# Altium footprint library Connector_DIN.PcbLib: 94 footprints (part 6 of 6)
Each footprint in its own frame and in the unit in brackets; x right, y up, seen from the top. Pads: shape width x height; smd on the part's side, far side on the other; paste and mask are expansions set on the pad; w line width, h text height; cw(c..) or ccw(c..) is an arc to the next point about the centre after c.
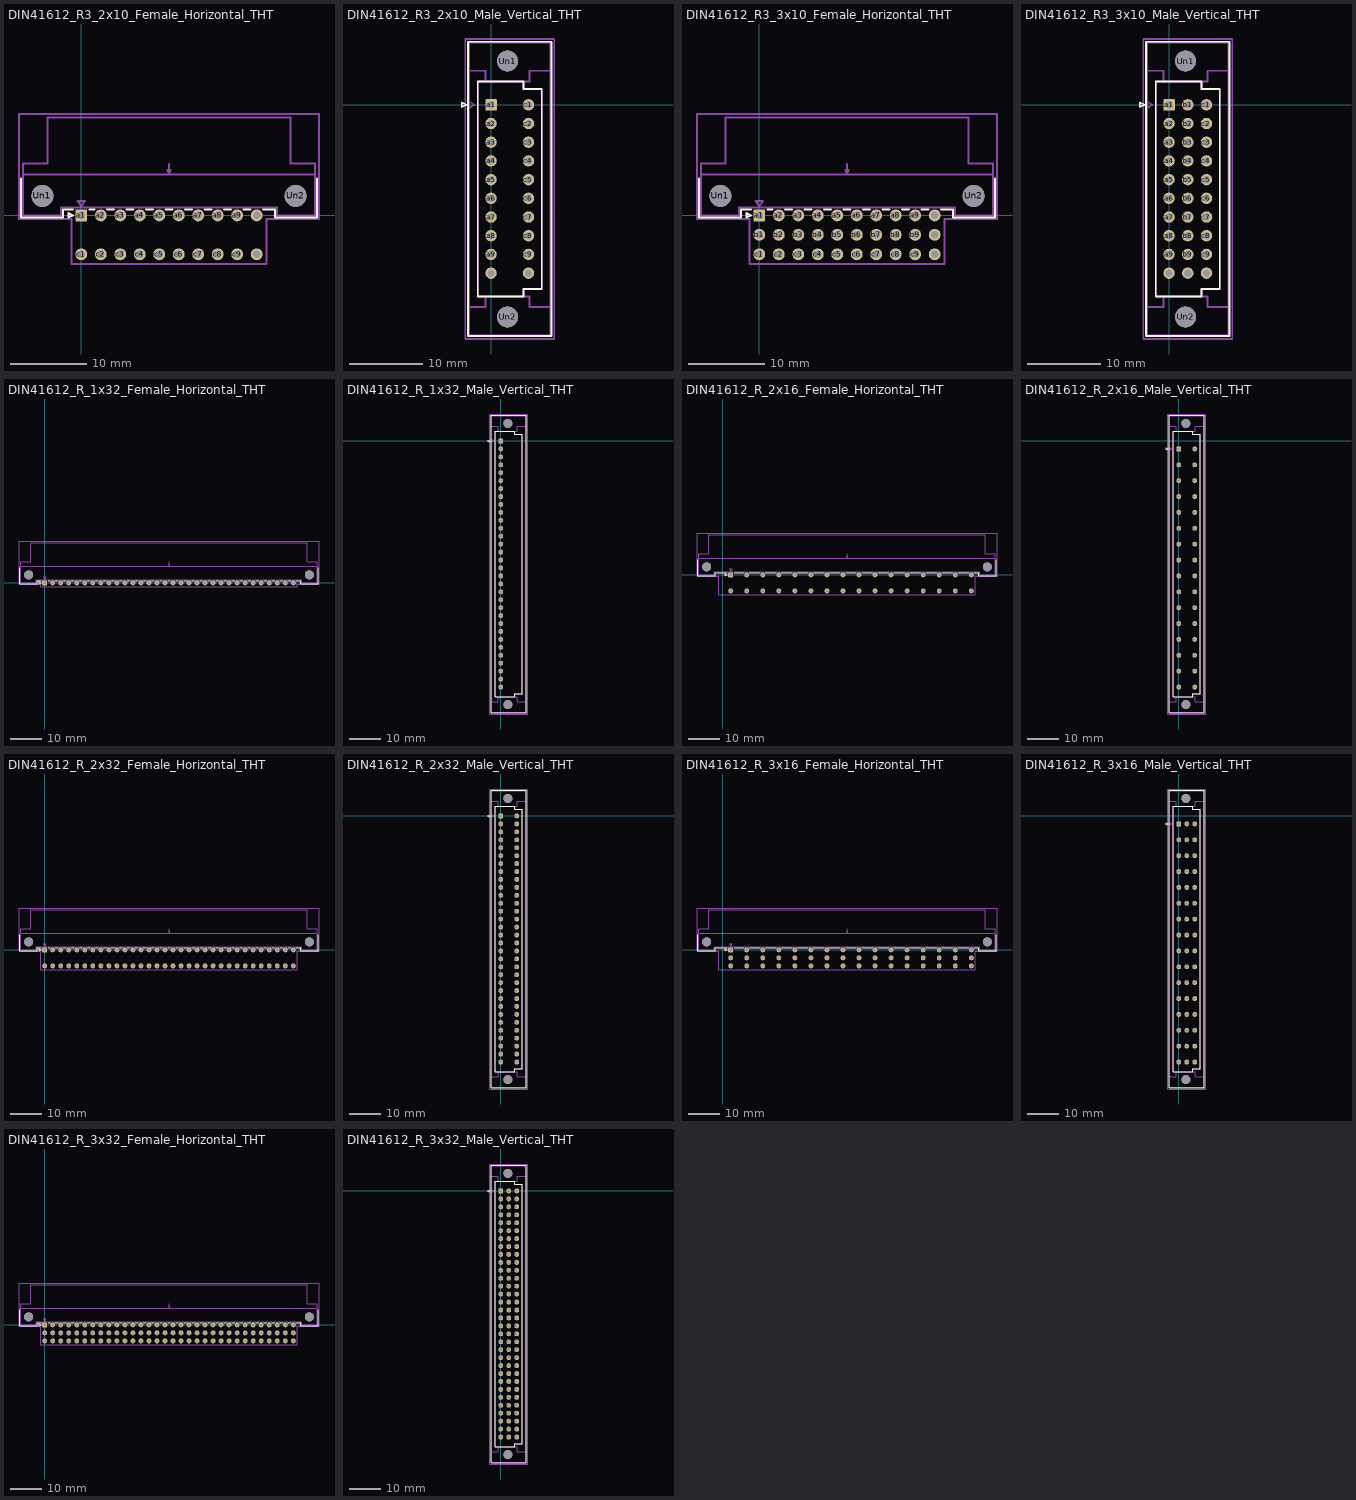
[diagram p5: the footprints below, top view; thin cyan lines are the x and y axes]

## DIN41612_R3_2x10_Female_Horizontal_THT [mm]
pads (22):
  rrect16% 1.55x1.55 hole 1: a1(0,0)
  round 1.55 hole 1: a2(2.54,0) a3(5.08,0) a4(7.62,0) a5(10.16,0) a6(12.7,0) a7(15.24,0) a8(17.78,0) a9(20.32,0) a10(22.86,0) c1(0,-5.08) c2(2.54,-5.08) c3(5.08,-5.08) c4(7.62,-5.08) c5(10.16,-5.08) c6(12.7,-5.08) c7(15.24,-5.08) c8(17.78,-5.08) c9(20.32,-5.08) c10(22.86,-5.08)
  round 2.85 hole 2.85: Un1(-5.08,2.54) Un2(27.94,2.54)
F.SilkS:
  lines w0.254: -7.88,4.8 -7.88,-0.26 -2.36,-0.26 -2.36,0.74 -1.095,0.74 ; 1.095,0.74 1.733,0.74 ; 3.347,0.74 4.273,0.74 ; 5.887,0.74 6.813,0.74 ; 8.427,0.74 9.353,0.74 ; 10.967,0.74 11.893,0.74 ; 13.507,0.74 14.433,0.74 ; 16.047,0.74 16.973,0.74 ; 18.587,0.74 19.513,0.74 ; 21.127,0.74 22.053,0.74 ; 23.667,0.74 25.22,0.74 25.22,-0.26 30.74,-0.26 30.74,4.8 ; -1.695,-0.3 -1.095,0 -1.695,0.3 -1.695,-0.3
Top Assembly:
  lines w0.254: -7.62,0 -2.62,0 -2.62,1 25.48,1 25.48,0 30.48,0 30.48,6.74 27.28,6.74 27.28,12.74 -4.42,12.74 -4.42,6.74 -7.62,6.74 -7.62,0 ; -0.5,1.9 0,1.2 0.5,1.9 -0.5,1.9
  text "'.Designator'" at 7.383,1.7 h1
Top Courtyard:
  lines w0.254: -8.12,-0.5 -1.27,-0.5 -1.27,-6.36 24.14,-6.36 24.14,-0.5 30.98,-0.5 30.98,13.23 -8.12,13.23 -8.12,-0.5
Top Designator:
  text ".Designator" at 3.812,2.927 h1.52
Dwgs.User:
  lines w0.254: -7.62,5.3 30.48,5.3
Cmts.User:
  lines w0.254: 11.23,5.9 11.43,5.4 ; 11.43,6.7 11.43,5.4 ; 11.63,5.9 11.43,5.4
  text "Board edge" at 8.637,6.733 h0.7

## DIN41612_R3_2x10_Male_Vertical_THT [mm]
pads (22):
  rrect16% 1.55x1.55 hole 1: a1(0,0)
  round 1.55 hole 1: a2(0,-2.54) a3(0,-5.08) a4(0,-7.62) a5(0,-10.16) a6(0,-12.7) a7(0,-15.24) a8(0,-17.78) a9(0,-20.32) a10(0,-22.86) c1(5.08,0) c2(5.08,-2.54) c3(5.08,-5.08) c4(5.08,-7.62) c5(5.08,-10.16) c6(5.08,-12.7) c7(5.08,-15.24) c8(5.08,-17.78) c9(5.08,-20.32) c10(5.08,-22.86)
  round 2.85 hole 2.85: Un1(2.24,5.95) Un2(2.24,-28.81)
F.SilkS:
  lines w0.254: -3.99,-0.3 -3.31,0 -3.99,0.3 -3.99,-0.3 ; -3.12,-31.42 8.2,-31.42 8.2,8.56 -3.12,8.56 -3.12,-31.42 ; -1.81,-26.03 4.39,-26.03 4.39,-25.03 6.89,-25.03 6.89,2.17 4.39,2.17 4.39,3.17 -1.81,3.17 -1.81,-26.03
Top Assembly:
  lines w0.254: -3.01,-27.48 -0.76,-27.48 -0.76,-26.03 ; -3.01,-0.5 -2.31,0 -3.01,0.5 ; -3.01,4.62 -0.76,4.62 -0.76,3.17 ; 8.09,-27.48 5.24,-27.48 5.24,-26.03 4.39,-26.03 ; 8.09,4.62 5.24,4.62 5.24,3.17 4.39,3.17 ; 4.39,-26.03 -1.81,-26.03 -1.81,3.17 4.39,3.17 ; 4.39,-26.03 4.39,-25.03 6.89,-25.03 6.89,2.17 4.39,2.17 4.39,3.17 ; -3.01,-31.31 8.09,-31.31 8.09,8.45 -3.01,8.45 -3.01,-31.31
  text "'.Designator'" at -1.507,-12.27 h1
Top Courtyard:
  lines w0.254: -3.5,-31.81 8.59,-31.81 8.59,8.94 -3.5,8.94 -3.5,-31.81
Top Designator:
  text ".Designator" at -5.318,-11.943 h1.52

## DIN41612_R3_3x10_Female_Horizontal_THT [mm]
pads (32):
  rrect16% 1.55x1.55 hole 1: a1(0,0)
  round 1.55 hole 1: a2(2.54,0) a3(5.08,0) a4(7.62,0) a5(10.16,0) a6(12.7,0) a7(15.24,0) a8(17.78,0) a9(20.32,0) a10(22.86,0) b1(0,-2.54) b2(2.54,-2.54) b3(5.08,-2.54) b4(7.62,-2.54) b5(10.16,-2.54) b6(12.7,-2.54) b7(15.24,-2.54) b8(17.78,-2.54) b9(20.32,-2.54) b10(22.86,-2.54) c1(0,-5.08) c2(2.54,-5.08) c3(5.08,-5.08) c4(7.62,-5.08) c5(10.16,-5.08) c6(12.7,-5.08) c7(15.24,-5.08) c8(17.78,-5.08) c9(20.32,-5.08) c10(22.86,-5.08)
  round 2.85 hole 2.85: Un1(-5.08,2.54) Un2(27.94,2.54)
F.SilkS:
  lines w0.254: -7.88,4.8 -7.88,-0.26 -2.36,-0.26 -2.36,0.74 -1.095,0.74 ; 1.095,0.74 1.733,0.74 ; 3.347,0.74 4.273,0.74 ; 5.887,0.74 6.813,0.74 ; 8.427,0.74 9.353,0.74 ; 10.967,0.74 11.893,0.74 ; 13.507,0.74 14.433,0.74 ; 16.047,0.74 16.973,0.74 ; 18.587,0.74 19.513,0.74 ; 21.127,0.74 22.053,0.74 ; 23.667,0.74 25.22,0.74 25.22,-0.26 30.74,-0.26 30.74,4.8 ; -1.695,-0.3 -1.095,0 -1.695,0.3 -1.695,-0.3
Top Assembly:
  lines w0.254: -7.62,0 -2.62,0 -2.62,1 25.48,1 25.48,0 30.48,0 30.48,6.74 27.28,6.74 27.28,12.74 -4.42,12.74 -4.42,6.74 -7.62,6.74 -7.62,0 ; -0.5,1.9 0,1.2 0.5,1.9 -0.5,1.9
  text "'.Designator'" at 7.383,1.7 h1
Top Courtyard:
  lines w0.254: -8.12,-0.5 -1.27,-0.5 -1.27,-6.36 24.14,-6.36 24.14,-0.5 30.98,-0.5 30.98,13.23 -8.12,13.23 -8.12,-0.5
Top Designator:
  text ".Designator" at 3.812,2.927 h1.52
Dwgs.User:
  lines w0.254: -7.62,5.3 30.48,5.3
Cmts.User:
  lines w0.254: 11.23,5.9 11.43,5.4 ; 11.43,6.7 11.43,5.4 ; 11.63,5.9 11.43,5.4
  text "Board edge" at 8.637,6.733 h0.7

## DIN41612_R3_3x10_Male_Vertical_THT [mm]
pads (32):
  rrect16% 1.55x1.55 hole 1: a1(0,0)
  round 1.55 hole 1: a2(0,-2.54) a3(0,-5.08) a4(0,-7.62) a5(0,-10.16) a6(0,-12.7) a7(0,-15.24) a8(0,-17.78) a9(0,-20.32) a10(0,-22.86) b1(2.54,0) b2(2.54,-2.54) b3(2.54,-5.08) b4(2.54,-7.62) b5(2.54,-10.16) b6(2.54,-12.7) b7(2.54,-15.24) b8(2.54,-17.78) b9(2.54,-20.32) b10(2.54,-22.86) c1(5.08,0) c2(5.08,-2.54) c3(5.08,-5.08) c4(5.08,-7.62) c5(5.08,-10.16) c6(5.08,-12.7) c7(5.08,-15.24) c8(5.08,-17.78) c9(5.08,-20.32) c10(5.08,-22.86)
  round 2.85 hole 2.85: Un1(2.24,5.95) Un2(2.24,-28.81)
F.SilkS:
  lines w0.254: -3.99,-0.3 -3.31,0 -3.99,0.3 -3.99,-0.3 ; -3.12,-31.42 8.2,-31.42 8.2,8.56 -3.12,8.56 -3.12,-31.42 ; -1.81,-26.03 4.39,-26.03 4.39,-25.03 6.89,-25.03 6.89,2.17 4.39,2.17 4.39,3.17 -1.81,3.17 -1.81,-26.03
Top Assembly:
  lines w0.254: -3.01,-27.48 -0.76,-27.48 -0.76,-26.03 ; -3.01,-0.5 -2.31,0 -3.01,0.5 ; -3.01,4.62 -0.76,4.62 -0.76,3.17 ; 8.09,-27.48 5.24,-27.48 5.24,-26.03 4.39,-26.03 ; 8.09,4.62 5.24,4.62 5.24,3.17 4.39,3.17 ; 4.39,-26.03 -1.81,-26.03 -1.81,3.17 4.39,3.17 ; 4.39,-26.03 4.39,-25.03 6.89,-25.03 6.89,2.17 4.39,2.17 4.39,3.17 ; -3.01,-31.31 8.09,-31.31 8.09,8.45 -3.01,8.45 -3.01,-31.31
  text "'.Designator'" at -1.507,-12.27 h1
Top Courtyard:
  lines w0.254: -3.5,-31.81 8.59,-31.81 8.59,8.94 -3.5,8.94 -3.5,-31.81
Top Designator:
  text ".Designator" at -5.318,-11.943 h1.52

## DIN41612_R_1x32_Female_Horizontal_THT [mm]
pads (34):
  rrect16% 1.55x1.55 hole 1: a1(0,0)
  round 1.55 hole 1: a2(2.54,0) a3(5.08,0) a4(7.62,0) a5(10.16,0) a6(12.7,0) a7(15.24,0) a8(17.78,0) a9(20.32,0) a10(22.86,0) a11(25.4,0) a12(27.94,0) a13(30.48,0) a14(33.02,0) a15(35.56,0) a16(38.1,0) a17(40.64,0) a18(43.18,0) a19(45.72,0) a20(48.26,0) a21(50.8,0) a22(53.34,0) a23(55.88,0) a24(58.42,0) a25(60.96,0) a26(63.5,0) a27(66.04,0) a28(68.58,0) a29(71.12,0) a30(73.66,0) a31(76.2,0) a32(78.74,0)
  round 2.85 hole 2.85: Un1(-5.08,2.54) Un2(83.82,2.54)
F.SilkS:
  lines w0.254: -7.89,4.8 -7.89,-0.26 -2.37,-0.26 -2.37,0.74 -1.095,0.74 ; 1.095,0.74 1.733,0.74 ; 3.347,0.74 4.273,0.74 ; 5.887,0.74 6.813,0.74 ; 8.427,0.74 9.353,0.74 ; 10.967,0.74 11.893,0.74 ; 13.507,0.74 14.433,0.74 ; 16.047,0.74 16.973,0.74 ; 18.587,0.74 19.513,0.74 ; 21.127,0.74 22.053,0.74 ; 23.667,0.74 24.593,0.74 ; 26.207,0.74 27.133,0.74 ; 28.747,0.74 29.673,0.74 ; 31.287,0.74 32.213,0.74 ; 33.827,0.74 34.753,0.74 ; 36.367,0.74 37.293,0.74 ; 38.907,0.74 39.833,0.74 ; 41.447,0.74 42.373,0.74 ; 43.987,0.74 44.913,0.74 ; 46.527,0.74 47.453,0.74 ; 49.067,0.74 49.993,0.74 ; 51.607,0.74 52.533,0.74 ; 54.147,0.74 55.073,0.74 ; 56.687,0.74 57.613,0.74 ; 59.227,0.74 60.153,0.74 ; 61.767,0.74 62.693,0.74 ; 64.307,0.74 65.233,0.74 ; 66.847,0.74 67.773,0.74 ; 69.387,0.74 70.313,0.74 ; 71.927,0.74 72.853,0.74 ; 74.467,0.74 75.393,0.74 ; 77.007,0.74 77.933,0.74 ; 79.547,0.74 81.11,0.74 81.11,-0.26 86.63,-0.26 86.63,4.8 ; -1.695,-0.3 -1.095,0 -1.695,0.3 -1.695,-0.3
Top Assembly:
  lines w0.254: -7.63,0 -2.63,0 -2.63,1 81.37,1 81.37,0 86.37,0 86.37,6.74 83.12,6.74 83.12,12.74 -4.38,12.74 -4.38,6.74 -7.63,6.74 -7.63,0 ; -0.5,1.9 0,1.2 0.5,1.9 -0.5,1.9
  text "'.Designator'" at 35.323,1.7 h1
Top Courtyard:
  lines w0.254: -8.13,-0.5 -1.27,-0.5 -1.27,-1.28 80.02,-1.28 80.02,-0.5 86.87,-0.5 86.87,13.23 -8.13,13.23 -8.13,-0.5
Top Designator:
  text ".Designator" at 31.752,5.467 h1.52
Dwgs.User:
  lines w0.254: -7.63,5.3 86.37,5.3
Cmts.User:
  lines w0.254: 39.17,5.9 39.37,5.4 ; 39.37,6.7 39.37,5.4 ; 39.57,5.9 39.37,5.4
  text "Board edge" at 36.577,6.733 h0.7

## DIN41612_R_1x32_Male_Vertical_THT [mm]
pads (34):
  rrect16% 1.55x1.55 hole 1: a1(0,0)
  round 1.55 hole 1: a2(0,-2.54) a3(0,-5.08) a4(0,-7.62) a5(0,-10.16) a6(0,-12.7) a7(0,-15.24) a8(0,-17.78) a9(0,-20.32) a10(0,-22.86) a11(0,-25.4) a12(0,-27.94) a13(0,-30.48) a14(0,-33.02) a15(0,-35.56) a16(0,-38.1) a17(0,-40.64) a18(0,-43.18) a19(0,-45.72) a20(0,-48.26) a21(0,-50.8) a22(0,-53.34) a23(0,-55.88) a24(0,-58.42) a25(0,-60.96) a26(0,-63.5) a27(0,-66.04) a28(0,-68.58) a29(0,-71.12) a30(0,-73.66) a31(0,-76.2) a32(0,-78.74)
  round 2.85 hole 2.85: Un1(2.24,5.63) Un2(2.24,-84.37)
F.SilkS:
  lines w0.254: -3.99,-0.3 -3.31,0 -3.99,0.3 -3.99,-0.3 ; -3.12,-86.98 8.2,-86.98 8.2,8.24 -3.12,8.24 -3.12,-86.98 ; -1.81,-81.87 4.39,-81.87 4.39,-80.87 6.89,-80.87 6.89,2.13 4.39,2.13 4.39,3.13 -1.81,3.13 -1.81,-81.87
Top Assembly:
  lines w0.254: -3.01,-83.37 -0.76,-83.37 -0.76,-81.87 ; -3.01,-0.5 -2.31,0 -3.01,0.5 ; -3.01,4.63 -0.76,4.63 -0.76,3.13 ; 8.09,-83.37 5.24,-83.37 5.24,-81.87 4.39,-81.87 ; 8.09,4.63 5.24,4.63 5.24,3.13 4.39,3.13 ; 4.39,-81.87 -1.81,-81.87 -1.81,3.13 4.39,3.13 ; 4.39,-81.87 4.39,-80.87 6.89,-80.87 6.89,2.13 4.39,2.13 4.39,3.13 ; -3.01,-86.87 8.09,-86.87 8.09,8.13 -3.01,8.13 -3.01,-86.87
  text "'.Designator'" at -1.507,-40.21 h1
Top Courtyard:
  lines w0.254: -3.5,-87.37 8.59,-87.37 8.59,8.63 -3.5,8.63 -3.5,-87.37
Top Designator:
  text ".Designator" at -5.318,-39.878 h1.52

## DIN41612_R_2x16_Female_Horizontal_THT [mm]
pads (34):
  rrect16% 1.55x1.55 hole 1: a2(2.54,0)
  round 1.55 hole 1: a4(7.62,0) a6(12.7,0) a8(17.78,0) a10(22.86,0) a12(27.94,0) a14(33.02,0) a16(38.1,0) a18(43.18,0) a20(48.26,0) a22(53.34,0) a24(58.42,0) a26(63.5,0) a28(68.58,0) a30(73.66,0) a32(78.74,0) c2(2.54,-5.08) c4(7.62,-5.08) c6(12.7,-5.08) c8(17.78,-5.08) c10(22.86,-5.08) c12(27.94,-5.08) c14(33.02,-5.08) c16(38.1,-5.08) c18(43.18,-5.08) c20(48.26,-5.08) c22(53.34,-5.08) c24(58.42,-5.08) c26(63.5,-5.08) c28(68.58,-5.08) c30(73.66,-5.08) c32(78.74,-5.08)
  round 2.85 hole 2.85: Un1(-5.08,2.54) Un2(83.82,2.54)
F.SilkS:
  lines w0.254: -7.89,4.8 -7.89,-0.26 -2.37,-0.26 -2.37,0.74 1.445,0.74 ; 3.635,0.74 6.813,0.74 ; 8.427,0.74 11.893,0.74 ; 13.507,0.74 16.973,0.74 ; 18.587,0.74 22.053,0.74 ; 23.667,0.74 27.133,0.74 ; 28.747,0.74 32.213,0.74 ; 33.827,0.74 37.293,0.74 ; 38.907,0.74 42.373,0.74 ; 43.987,0.74 47.453,0.74 ; 49.067,0.74 52.533,0.74 ; 54.147,0.74 57.613,0.74 ; 59.227,0.74 62.693,0.74 ; 64.307,0.74 67.773,0.74 ; 69.387,0.74 72.853,0.74 ; 74.467,0.74 77.933,0.74 ; 79.547,0.74 81.11,0.74 81.11,-0.26 86.63,-0.26 86.63,4.8 ; 0.845,-0.3 1.445,0 0.845,0.3 0.845,-0.3
Top Assembly:
  lines w0.254: -7.63,0 -2.63,0 -2.63,1 81.37,1 81.37,0 86.37,0 86.37,6.74 83.12,6.74 83.12,12.74 -4.38,12.74 -4.38,6.74 -7.63,6.74 -7.63,0 ; 2.04,1.9 2.54,1.2 3.04,1.9 2.04,1.9
  text "'.Designator'" at 35.323,1.7 h1
Top Courtyard:
  lines w0.254: -8.13,-0.5 -1.27,-0.5 -1.27,-6.36 80.02,-6.36 80.02,-0.5 86.87,-0.5 86.87,13.23 -8.13,13.23 -8.13,-0.5
Top Designator:
  text ".Designator" at 31.752,2.927 h1.52
Dwgs.User:
  lines w0.254: -7.63,5.3 86.37,5.3
Cmts.User:
  lines w0.254: 39.17,5.9 39.37,5.4 ; 39.37,6.7 39.37,5.4 ; 39.57,5.9 39.37,5.4
  text "Board edge" at 36.577,6.733 h0.7

## DIN41612_R_2x16_Male_Vertical_THT [mm]
pads (34):
  rrect16% 1.55x1.55 hole 1: a2(0,-2.54)
  round 1.55 hole 1: a4(0,-7.62) a6(0,-12.7) a8(0,-17.78) a10(0,-22.86) a12(0,-27.94) a14(0,-33.02) a16(0,-38.1) a18(0,-43.18) a20(0,-48.26) a22(0,-53.34) a24(0,-58.42) a26(0,-63.5) a28(0,-68.58) a30(0,-73.66) a32(0,-78.74) c2(5.08,-2.54) c4(5.08,-7.62) c6(5.08,-12.7) c8(5.08,-17.78) c10(5.08,-22.86) c12(5.08,-27.94) c14(5.08,-33.02) c16(5.08,-38.1) c18(5.08,-43.18) c20(5.08,-48.26) c22(5.08,-53.34) c24(5.08,-58.42) c26(5.08,-63.5) c28(5.08,-68.58) c30(5.08,-73.66) c32(5.08,-78.74)
  round 2.85 hole 2.85: Un1(2.24,5.63) Un2(2.24,-84.37)
F.SilkS:
  lines w0.254: -3.99,-2.84 -3.31,-2.54 -3.99,-2.24 -3.99,-2.84 ; -3.12,-86.98 8.2,-86.98 8.2,8.24 -3.12,8.24 -3.12,-86.98 ; -1.81,-81.87 4.39,-81.87 4.39,-80.87 6.89,-80.87 6.89,2.13 4.39,2.13 4.39,3.13 -1.81,3.13 -1.81,-81.87
Top Assembly:
  lines w0.254: -3.01,-83.37 -0.76,-83.37 -0.76,-81.87 ; -3.01,-3.04 -2.31,-2.54 -3.01,-2.04 ; -3.01,4.63 -0.76,4.63 -0.76,3.13 ; 8.09,-83.37 5.24,-83.37 5.24,-81.87 4.39,-81.87 ; 8.09,4.63 5.24,4.63 5.24,3.13 4.39,3.13 ; 4.39,-81.87 -1.81,-81.87 -1.81,3.13 4.39,3.13 ; 4.39,-81.87 4.39,-80.87 6.89,-80.87 6.89,2.13 4.39,2.13 4.39,3.13 ; -3.01,-86.87 8.09,-86.87 8.09,8.13 -3.01,8.13 -3.01,-86.87
  text "'.Designator'" at -1.507,-40.21 h1
Top Courtyard:
  lines w0.254: -3.5,-87.37 8.59,-87.37 8.59,8.63 -3.5,8.63 -3.5,-87.37
Top Designator:
  text ".Designator" at -5.318,-39.878 h1.52

## DIN41612_R_2x32_Female_Horizontal_THT [mm]
pads (66):
  rrect16% 1.55x1.55 hole 1: a1(0,0)
  round 1.55 hole 1: a2(2.54,0) a3(5.08,0) a4(7.62,0) a5(10.16,0) a6(12.7,0) a7(15.24,0) a8(17.78,0) a9(20.32,0) a10(22.86,0) a11(25.4,0) a12(27.94,0) a13(30.48,0) a14(33.02,0) a15(35.56,0) a16(38.1,0) a17(40.64,0) a18(43.18,0) a19(45.72,0) a20(48.26,0) a21(50.8,0) a22(53.34,0) a23(55.88,0) a24(58.42,0) a25(60.96,0) a26(63.5,0) a27(66.04,0) a28(68.58,0) a29(71.12,0) a30(73.66,0) a31(76.2,0) a32(78.74,0) c1(0,-5.08) c2(2.54,-5.08) c3(5.08,-5.08) c4(7.62,-5.08) c5(10.16,-5.08) c6(12.7,-5.08) c7(15.24,-5.08) c8(17.78,-5.08) c9(20.32,-5.08) c10(22.86,-5.08) c11(25.4,-5.08) c12(27.94,-5.08) c13(30.48,-5.08) c14(33.02,-5.08) c15(35.56,-5.08) c16(38.1,-5.08) c17(40.64,-5.08) c18(43.18,-5.08) c19(45.72,-5.08) c20(48.26,-5.08) c21(50.8,-5.08) c22(53.34,-5.08) c23(55.88,-5.08) c24(58.42,-5.08) c25(60.96,-5.08) c26(63.5,-5.08) c27(66.04,-5.08) c28(68.58,-5.08) c29(71.12,-5.08) c30(73.66,-5.08) c31(76.2,-5.08) c32(78.74,-5.08)
  round 2.85 hole 2.85: Un1(-5.08,2.54) Un2(83.82,2.54)
F.SilkS:
  lines w0.254: -7.89,4.8 -7.89,-0.26 -2.37,-0.26 -2.37,0.74 -1.095,0.74 ; 1.095,0.74 1.733,0.74 ; 3.347,0.74 4.273,0.74 ; 5.887,0.74 6.813,0.74 ; 8.427,0.74 9.353,0.74 ; 10.967,0.74 11.893,0.74 ; 13.507,0.74 14.433,0.74 ; 16.047,0.74 16.973,0.74 ; 18.587,0.74 19.513,0.74 ; 21.127,0.74 22.053,0.74 ; 23.667,0.74 24.593,0.74 ; 26.207,0.74 27.133,0.74 ; 28.747,0.74 29.673,0.74 ; 31.287,0.74 32.213,0.74 ; 33.827,0.74 34.753,0.74 ; 36.367,0.74 37.293,0.74 ; 38.907,0.74 39.833,0.74 ; 41.447,0.74 42.373,0.74 ; 43.987,0.74 44.913,0.74 ; 46.527,0.74 47.453,0.74 ; 49.067,0.74 49.993,0.74 ; 51.607,0.74 52.533,0.74 ; 54.147,0.74 55.073,0.74 ; 56.687,0.74 57.613,0.74 ; 59.227,0.74 60.153,0.74 ; 61.767,0.74 62.693,0.74 ; 64.307,0.74 65.233,0.74 ; 66.847,0.74 67.773,0.74 ; 69.387,0.74 70.313,0.74 ; 71.927,0.74 72.853,0.74 ; 74.467,0.74 75.393,0.74 ; 77.007,0.74 77.933,0.74 ; 79.547,0.74 81.11,0.74 81.11,-0.26 86.63,-0.26 86.63,4.8 ; -1.695,-0.3 -1.095,0 -1.695,0.3 -1.695,-0.3
Top Assembly:
  lines w0.254: -7.63,0 -2.63,0 -2.63,1 81.37,1 81.37,0 86.37,0 86.37,6.74 83.12,6.74 83.12,12.74 -4.38,12.74 -4.38,6.74 -7.63,6.74 -7.63,0 ; -0.5,1.9 0,1.2 0.5,1.9 -0.5,1.9
  text "'.Designator'" at 35.323,1.7 h1
Top Courtyard:
  lines w0.254: -8.13,-0.5 -1.27,-0.5 -1.27,-6.36 80.02,-6.36 80.02,-0.5 86.87,-0.5 86.87,13.23 -8.13,13.23 -8.13,-0.5
Top Designator:
  text ".Designator" at 31.752,2.927 h1.52
Dwgs.User:
  lines w0.254: -7.63,5.3 86.37,5.3
Cmts.User:
  lines w0.254: 39.17,5.9 39.37,5.4 ; 39.37,6.7 39.37,5.4 ; 39.57,5.9 39.37,5.4
  text "Board edge" at 36.577,6.733 h0.7

## DIN41612_R_2x32_Male_Vertical_THT [mm]
pads (66):
  rrect16% 1.55x1.55 hole 1: a1(0,0)
  round 1.55 hole 1: a2(0,-2.54) a3(0,-5.08) a4(0,-7.62) a5(0,-10.16) a6(0,-12.7) a7(0,-15.24) a8(0,-17.78) a9(0,-20.32) a10(0,-22.86) a11(0,-25.4) a12(0,-27.94) a13(0,-30.48) a14(0,-33.02) a15(0,-35.56) a16(0,-38.1) a17(0,-40.64) a18(0,-43.18) a19(0,-45.72) a20(0,-48.26) a21(0,-50.8) a22(0,-53.34) a23(0,-55.88) a24(0,-58.42) a25(0,-60.96) a26(0,-63.5) a27(0,-66.04) a28(0,-68.58) a29(0,-71.12) a30(0,-73.66) a31(0,-76.2) a32(0,-78.74) c1(5.08,0) c2(5.08,-2.54) c3(5.08,-5.08) c4(5.08,-7.62) c5(5.08,-10.16) c6(5.08,-12.7) c7(5.08,-15.24) c8(5.08,-17.78) c9(5.08,-20.32) c10(5.08,-22.86) c11(5.08,-25.4) c12(5.08,-27.94) c13(5.08,-30.48) c14(5.08,-33.02) c15(5.08,-35.56) c16(5.08,-38.1) c17(5.08,-40.64) c18(5.08,-43.18) c19(5.08,-45.72) c20(5.08,-48.26) c21(5.08,-50.8) c22(5.08,-53.34) c23(5.08,-55.88) c24(5.08,-58.42) c25(5.08,-60.96) c26(5.08,-63.5) c27(5.08,-66.04) c28(5.08,-68.58) c29(5.08,-71.12) c30(5.08,-73.66) c31(5.08,-76.2) c32(5.08,-78.74)
  round 2.85 hole 2.85: Un1(2.24,5.63) Un2(2.24,-84.37)
F.SilkS:
  lines w0.254: -3.99,-0.3 -3.31,0 -3.99,0.3 -3.99,-0.3 ; -3.12,-86.98 8.2,-86.98 8.2,8.24 -3.12,8.24 -3.12,-86.98 ; -1.81,-81.87 4.39,-81.87 4.39,-80.87 6.89,-80.87 6.89,2.13 4.39,2.13 4.39,3.13 -1.81,3.13 -1.81,-81.87
Top Assembly:
  lines w0.254: -3.01,-83.37 -0.76,-83.37 -0.76,-81.87 ; -3.01,-0.5 -2.31,0 -3.01,0.5 ; -3.01,4.63 -0.76,4.63 -0.76,3.13 ; 8.09,-83.37 5.24,-83.37 5.24,-81.87 4.39,-81.87 ; 8.09,4.63 5.24,4.63 5.24,3.13 4.39,3.13 ; 4.39,-81.87 -1.81,-81.87 -1.81,3.13 4.39,3.13 ; 4.39,-81.87 4.39,-80.87 6.89,-80.87 6.89,2.13 4.39,2.13 4.39,3.13 ; -3.01,-86.87 8.09,-86.87 8.09,8.13 -3.01,8.13 -3.01,-86.87
  text "'.Designator'" at -1.507,-40.21 h1
Top Courtyard:
  lines w0.254: -3.5,-87.37 8.59,-87.37 8.59,8.63 -3.5,8.63 -3.5,-87.37
Top Designator:
  text ".Designator" at -5.318,-39.878 h1.52

## DIN41612_R_3x16_Female_Horizontal_THT [mm]
pads (50):
  rrect16% 1.55x1.55 hole 1: a2(2.54,0)
  round 1.55 hole 1: a4(7.62,0) a6(12.7,0) a8(17.78,0) a10(22.86,0) a12(27.94,0) a14(33.02,0) a16(38.1,0) a18(43.18,0) a20(48.26,0) a22(53.34,0) a24(58.42,0) a26(63.5,0) a28(68.58,0) a30(73.66,0) a32(78.74,0) b2(2.54,-2.54) b4(7.62,-2.54) b6(12.7,-2.54) b8(17.78,-2.54) b10(22.86,-2.54) b12(27.94,-2.54) b14(33.02,-2.54) b16(38.1,-2.54) b18(43.18,-2.54) b20(48.26,-2.54) b22(53.34,-2.54) b24(58.42,-2.54) b26(63.5,-2.54) b28(68.58,-2.54) b30(73.66,-2.54) b32(78.74,-2.54) c2(2.54,-5.08) c4(7.62,-5.08) c6(12.7,-5.08) c8(17.78,-5.08) c10(22.86,-5.08) c12(27.94,-5.08) c14(33.02,-5.08) c16(38.1,-5.08) c18(43.18,-5.08) c20(48.26,-5.08) c22(53.34,-5.08) c24(58.42,-5.08) c26(63.5,-5.08) c28(68.58,-5.08) c30(73.66,-5.08) c32(78.74,-5.08)
  round 2.85 hole 2.85: Un1(-5.08,2.54) Un2(83.82,2.54)
F.SilkS:
  lines w0.254: -7.89,4.8 -7.89,-0.26 -2.37,-0.26 -2.37,0.74 1.445,0.74 ; 3.635,0.74 6.813,0.74 ; 8.427,0.74 11.893,0.74 ; 13.507,0.74 16.973,0.74 ; 18.587,0.74 22.053,0.74 ; 23.667,0.74 27.133,0.74 ; 28.747,0.74 32.213,0.74 ; 33.827,0.74 37.293,0.74 ; 38.907,0.74 42.373,0.74 ; 43.987,0.74 47.453,0.74 ; 49.067,0.74 52.533,0.74 ; 54.147,0.74 57.613,0.74 ; 59.227,0.74 62.693,0.74 ; 64.307,0.74 67.773,0.74 ; 69.387,0.74 72.853,0.74 ; 74.467,0.74 77.933,0.74 ; 79.547,0.74 81.11,0.74 81.11,-0.26 86.63,-0.26 86.63,4.8 ; 0.845,-0.3 1.445,0 0.845,0.3 0.845,-0.3
Top Assembly:
  lines w0.254: -7.63,0 -2.63,0 -2.63,1 81.37,1 81.37,0 86.37,0 86.37,6.74 83.12,6.74 83.12,12.74 -4.38,12.74 -4.38,6.74 -7.63,6.74 -7.63,0 ; 2.04,1.9 2.54,1.2 3.04,1.9 2.04,1.9
  text "'.Designator'" at 35.323,1.7 h1
Top Courtyard:
  lines w0.254: -8.13,-0.5 -1.27,-0.5 -1.27,-6.36 80.02,-6.36 80.02,-0.5 86.87,-0.5 86.87,13.23 -8.13,13.23 -8.13,-0.5
Top Designator:
  text ".Designator" at 31.752,2.927 h1.52
Dwgs.User:
  lines w0.254: -7.63,5.3 86.37,5.3
Cmts.User:
  lines w0.254: 39.17,5.9 39.37,5.4 ; 39.37,6.7 39.37,5.4 ; 39.57,5.9 39.37,5.4
  text "Board edge" at 36.577,6.733 h0.7

## DIN41612_R_3x16_Male_Vertical_THT [mm]
pads (50):
  rrect16% 1.55x1.55 hole 1: a2(0,-2.54)
  round 1.55 hole 1: a4(0,-7.62) a6(0,-12.7) a8(0,-17.78) a10(0,-22.86) a12(0,-27.94) a14(0,-33.02) a16(0,-38.1) a18(0,-43.18) a20(0,-48.26) a22(0,-53.34) a24(0,-58.42) a26(0,-63.5) a28(0,-68.58) a30(0,-73.66) a32(0,-78.74) b2(2.54,-2.54) b4(2.54,-7.62) b6(2.54,-12.7) b8(2.54,-17.78) b10(2.54,-22.86) b12(2.54,-27.94) b14(2.54,-33.02) b16(2.54,-38.1) b18(2.54,-43.18) b20(2.54,-48.26) b22(2.54,-53.34) b24(2.54,-58.42) b26(2.54,-63.5) b28(2.54,-68.58) b30(2.54,-73.66) b32(2.54,-78.74) c2(5.08,-2.54) c4(5.08,-7.62) c6(5.08,-12.7) c8(5.08,-17.78) c10(5.08,-22.86) c12(5.08,-27.94) c14(5.08,-33.02) c16(5.08,-38.1) c18(5.08,-43.18) c20(5.08,-48.26) c22(5.08,-53.34) c24(5.08,-58.42) c26(5.08,-63.5) c28(5.08,-68.58) c30(5.08,-73.66) c32(5.08,-78.74)
  round 2.85 hole 2.85: Un1(2.24,5.63) Un2(2.24,-84.37)
F.SilkS:
  lines w0.254: -3.99,-2.84 -3.31,-2.54 -3.99,-2.24 -3.99,-2.84 ; -3.12,-86.98 8.2,-86.98 8.2,8.24 -3.12,8.24 -3.12,-86.98 ; -1.81,-81.87 4.39,-81.87 4.39,-80.87 6.89,-80.87 6.89,2.13 4.39,2.13 4.39,3.13 -1.81,3.13 -1.81,-81.87
Top Assembly:
  lines w0.254: -3.01,-83.37 -0.76,-83.37 -0.76,-81.87 ; -3.01,-3.04 -2.31,-2.54 -3.01,-2.04 ; -3.01,4.63 -0.76,4.63 -0.76,3.13 ; 8.09,-83.37 5.24,-83.37 5.24,-81.87 4.39,-81.87 ; 8.09,4.63 5.24,4.63 5.24,3.13 4.39,3.13 ; 4.39,-81.87 -1.81,-81.87 -1.81,3.13 4.39,3.13 ; 4.39,-81.87 4.39,-80.87 6.89,-80.87 6.89,2.13 4.39,2.13 4.39,3.13 ; -3.01,-86.87 8.09,-86.87 8.09,8.13 -3.01,8.13 -3.01,-86.87
  text "'.Designator'" at -1.507,-40.21 h1
Top Courtyard:
  lines w0.254: -3.5,-87.37 8.59,-87.37 8.59,8.63 -3.5,8.63 -3.5,-87.37
Top Designator:
  text ".Designator" at -5.318,-39.878 h1.52

## DIN41612_R_3x32_Female_Horizontal_THT [mm]
pads (98):
  rrect16% 1.55x1.55 hole 1: a1(0,0)
  round 1.55 hole 1: a2(2.54,0) a3(5.08,0) a4(7.62,0) a5(10.16,0) a6(12.7,0) a7(15.24,0) a8(17.78,0) a9(20.32,0) a10(22.86,0) a11(25.4,0) a12(27.94,0) a13(30.48,0) a14(33.02,0) a15(35.56,0) a16(38.1,0) a17(40.64,0) a18(43.18,0) a19(45.72,0) a20(48.26,0) a21(50.8,0) a22(53.34,0) a23(55.88,0) a24(58.42,0) a25(60.96,0) a26(63.5,0) a27(66.04,0) a28(68.58,0) a29(71.12,0) a30(73.66,0) a31(76.2,0) a32(78.74,0) b1(0,-2.54) b2(2.54,-2.54) b3(5.08,-2.54) b4(7.62,-2.54) b5(10.16,-2.54) b6(12.7,-2.54) b7(15.24,-2.54) b8(17.78,-2.54) b9(20.32,-2.54) b10(22.86,-2.54) b11(25.4,-2.54) b12(27.94,-2.54) b13(30.48,-2.54) b14(33.02,-2.54) b15(35.56,-2.54) b16(38.1,-2.54) b17(40.64,-2.54) b18(43.18,-2.54) b19(45.72,-2.54) b20(48.26,-2.54) b21(50.8,-2.54) b22(53.34,-2.54) b23(55.88,-2.54) b24(58.42,-2.54) b25(60.96,-2.54) b26(63.5,-2.54) b27(66.04,-2.54) b28(68.58,-2.54) b29(71.12,-2.54) b30(73.66,-2.54) b31(76.2,-2.54) b32(78.74,-2.54) c1(0,-5.08) c2(2.54,-5.08) c3(5.08,-5.08) c4(7.62,-5.08) c5(10.16,-5.08) c6(12.7,-5.08) c7(15.24,-5.08) c8(17.78,-5.08) c9(20.32,-5.08) c10(22.86,-5.08) c11(25.4,-5.08) c12(27.94,-5.08) c13(30.48,-5.08) c14(33.02,-5.08) c15(35.56,-5.08) c16(38.1,-5.08) c17(40.64,-5.08) c18(43.18,-5.08) c19(45.72,-5.08) c20(48.26,-5.08) c21(50.8,-5.08) c22(53.34,-5.08) c23(55.88,-5.08) c24(58.42,-5.08) c25(60.96,-5.08) c26(63.5,-5.08) c27(66.04,-5.08) c28(68.58,-5.08) c29(71.12,-5.08) c30(73.66,-5.08) c31(76.2,-5.08) c32(78.74,-5.08)
  round 2.85 hole 2.85: Un1(-5.08,2.54) Un2(83.82,2.54)
F.SilkS:
  lines w0.254: -7.89,4.8 -7.89,-0.26 -2.37,-0.26 -2.37,0.74 -1.095,0.74 ; 1.095,0.74 1.733,0.74 ; 3.347,0.74 4.273,0.74 ; 5.887,0.74 6.813,0.74 ; 8.427,0.74 9.353,0.74 ; 10.967,0.74 11.893,0.74 ; 13.507,0.74 14.433,0.74 ; 16.047,0.74 16.973,0.74 ; 18.587,0.74 19.513,0.74 ; 21.127,0.74 22.053,0.74 ; 23.667,0.74 24.593,0.74 ; 26.207,0.74 27.133,0.74 ; 28.747,0.74 29.673,0.74 ; 31.287,0.74 32.213,0.74 ; 33.827,0.74 34.753,0.74 ; 36.367,0.74 37.293,0.74 ; 38.907,0.74 39.833,0.74 ; 41.447,0.74 42.373,0.74 ; 43.987,0.74 44.913,0.74 ; 46.527,0.74 47.453,0.74 ; 49.067,0.74 49.993,0.74 ; 51.607,0.74 52.533,0.74 ; 54.147,0.74 55.073,0.74 ; 56.687,0.74 57.613,0.74 ; 59.227,0.74 60.153,0.74 ; 61.767,0.74 62.693,0.74 ; 64.307,0.74 65.233,0.74 ; 66.847,0.74 67.773,0.74 ; 69.387,0.74 70.313,0.74 ; 71.927,0.74 72.853,0.74 ; 74.467,0.74 75.393,0.74 ; 77.007,0.74 77.933,0.74 ; 79.547,0.74 81.11,0.74 81.11,-0.26 86.63,-0.26 86.63,4.8 ; -1.695,-0.3 -1.095,0 -1.695,0.3 -1.695,-0.3
Top Assembly:
  lines w0.254: -7.63,0 -2.63,0 -2.63,1 81.37,1 81.37,0 86.37,0 86.37,6.74 83.12,6.74 83.12,12.74 -4.38,12.74 -4.38,6.74 -7.63,6.74 -7.63,0 ; -0.5,1.9 0,1.2 0.5,1.9 -0.5,1.9
  text "'.Designator'" at 35.323,1.7 h1
Top Courtyard:
  lines w0.254: -8.13,-0.5 -1.27,-0.5 -1.27,-6.36 80.02,-6.36 80.02,-0.5 86.87,-0.5 86.87,13.23 -8.13,13.23 -8.13,-0.5
Top Designator:
  text ".Designator" at 31.752,2.927 h1.52
Dwgs.User:
  lines w0.254: -7.63,5.3 86.37,5.3
Cmts.User:
  lines w0.254: 39.17,5.9 39.37,5.4 ; 39.37,6.7 39.37,5.4 ; 39.57,5.9 39.37,5.4
  text "Board edge" at 36.577,6.733 h0.7

## DIN41612_R_3x32_Male_Vertical_THT [mm]
pads (98):
  rrect16% 1.55x1.55 hole 1: a1(0,0)
  round 1.55 hole 1: a2(0,-2.54) a3(0,-5.08) a4(0,-7.62) a5(0,-10.16) a6(0,-12.7) a7(0,-15.24) a8(0,-17.78) a9(0,-20.32) a10(0,-22.86) a11(0,-25.4) a12(0,-27.94) a13(0,-30.48) a14(0,-33.02) a15(0,-35.56) a16(0,-38.1) a17(0,-40.64) a18(0,-43.18) a19(0,-45.72) a20(0,-48.26) a21(0,-50.8) a22(0,-53.34) a23(0,-55.88) a24(0,-58.42) a25(0,-60.96) a26(0,-63.5) a27(0,-66.04) a28(0,-68.58) a29(0,-71.12) a30(0,-73.66) a31(0,-76.2) a32(0,-78.74) b1(2.54,0) b2(2.54,-2.54) b3(2.54,-5.08) b4(2.54,-7.62) b5(2.54,-10.16) b6(2.54,-12.7) b7(2.54,-15.24) b8(2.54,-17.78) b9(2.54,-20.32) b10(2.54,-22.86) b11(2.54,-25.4) b12(2.54,-27.94) b13(2.54,-30.48) b14(2.54,-33.02) b15(2.54,-35.56) b16(2.54,-38.1) b17(2.54,-40.64) b18(2.54,-43.18) b19(2.54,-45.72) b20(2.54,-48.26) b21(2.54,-50.8) b22(2.54,-53.34) b23(2.54,-55.88) b24(2.54,-58.42) b25(2.54,-60.96) b26(2.54,-63.5) b27(2.54,-66.04) b28(2.54,-68.58) b29(2.54,-71.12) b30(2.54,-73.66) b31(2.54,-76.2) b32(2.54,-78.74) c1(5.08,0) c2(5.08,-2.54) c3(5.08,-5.08) c4(5.08,-7.62) c5(5.08,-10.16) c6(5.08,-12.7) c7(5.08,-15.24) c8(5.08,-17.78) c9(5.08,-20.32) c10(5.08,-22.86) c11(5.08,-25.4) c12(5.08,-27.94) c13(5.08,-30.48) c14(5.08,-33.02) c15(5.08,-35.56) c16(5.08,-38.1) c17(5.08,-40.64) c18(5.08,-43.18) c19(5.08,-45.72) c20(5.08,-48.26) c21(5.08,-50.8) c22(5.08,-53.34) c23(5.08,-55.88) c24(5.08,-58.42) c25(5.08,-60.96) c26(5.08,-63.5) c27(5.08,-66.04) c28(5.08,-68.58) c29(5.08,-71.12) c30(5.08,-73.66) c31(5.08,-76.2) c32(5.08,-78.74)
  round 2.85 hole 2.85: Un1(2.24,5.63) Un2(2.24,-84.37)
F.SilkS:
  lines w0.254: -3.99,-0.3 -3.31,0 -3.99,0.3 -3.99,-0.3 ; -3.12,-86.98 8.2,-86.98 8.2,8.24 -3.12,8.24 -3.12,-86.98 ; -1.81,-81.87 4.39,-81.87 4.39,-80.87 6.89,-80.87 6.89,2.13 4.39,2.13 4.39,3.13 -1.81,3.13 -1.81,-81.87
Top Assembly:
  lines w0.254: -3.01,-83.37 -0.76,-83.37 -0.76,-81.87 ; -3.01,-0.5 -2.31,0 -3.01,0.5 ; -3.01,4.63 -0.76,4.63 -0.76,3.13 ; 8.09,-83.37 5.24,-83.37 5.24,-81.87 4.39,-81.87 ; 8.09,4.63 5.24,4.63 5.24,3.13 4.39,3.13 ; 4.39,-81.87 -1.81,-81.87 -1.81,3.13 4.39,3.13 ; 4.39,-81.87 4.39,-80.87 6.89,-80.87 6.89,2.13 4.39,2.13 4.39,3.13 ; -3.01,-86.87 8.09,-86.87 8.09,8.13 -3.01,8.13 -3.01,-86.87
  text "'.Designator'" at -1.507,-40.21 h1
Top Courtyard:
  lines w0.254: -3.5,-87.37 8.59,-87.37 8.59,8.63 -3.5,8.63 -3.5,-87.37
Top Designator:
  text ".Designator" at -5.318,-39.878 h1.52